# EAGLE library part LTC1730 (library IntegratedLib)
Pulse Charger para baterias de Ion-Litio (SOIC-8)
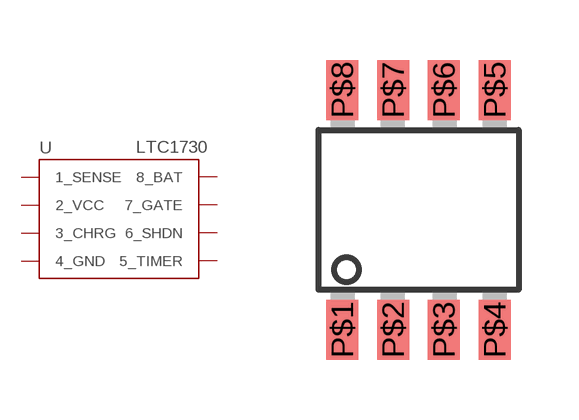
[diagram p7: symbol with the pads of SOIC-8; footprint SOIC-8]

Designator prefix U

## LTC1730 (FABRICANTE: LINEAR TECHNOLOGY; PARTNUMBER: LTC1730; TIPO: CIRCUITO INTEGRADO)  [SOIC-8]
P$1  1_SENSE
P$2  2_VCC
P$3  3_CHRG
P$4  4_GND
P$5  5_TIMER
P$6  6_SHDN
P$7  7_GATE
P$8  8_BAT

## Footprint SOIC-8 (pad centres in mm)
smd 0.8 x 1.5: P$1 -1.905,-3; P$2 -0.635,-3; P$3 0.635,-3; P$4 1.905,-3; P$5 1.905,3; P$6 0.635,3; P$7 -0.635,3; P$8 -1.905,3